# Altium footprint library ECE453-Interface.PcbLib: 37 footprints (part 1 of 3)
Each footprint in its own frame and in the unit in brackets; x right, y up, seen from the top. Pads: shape width x height; smd on the part's side, far side on the other; paste and mask are expansions set on the pad; w line width, h text height; cw(c..) or ccw(c..) is an arc to the next point about the centre after c.
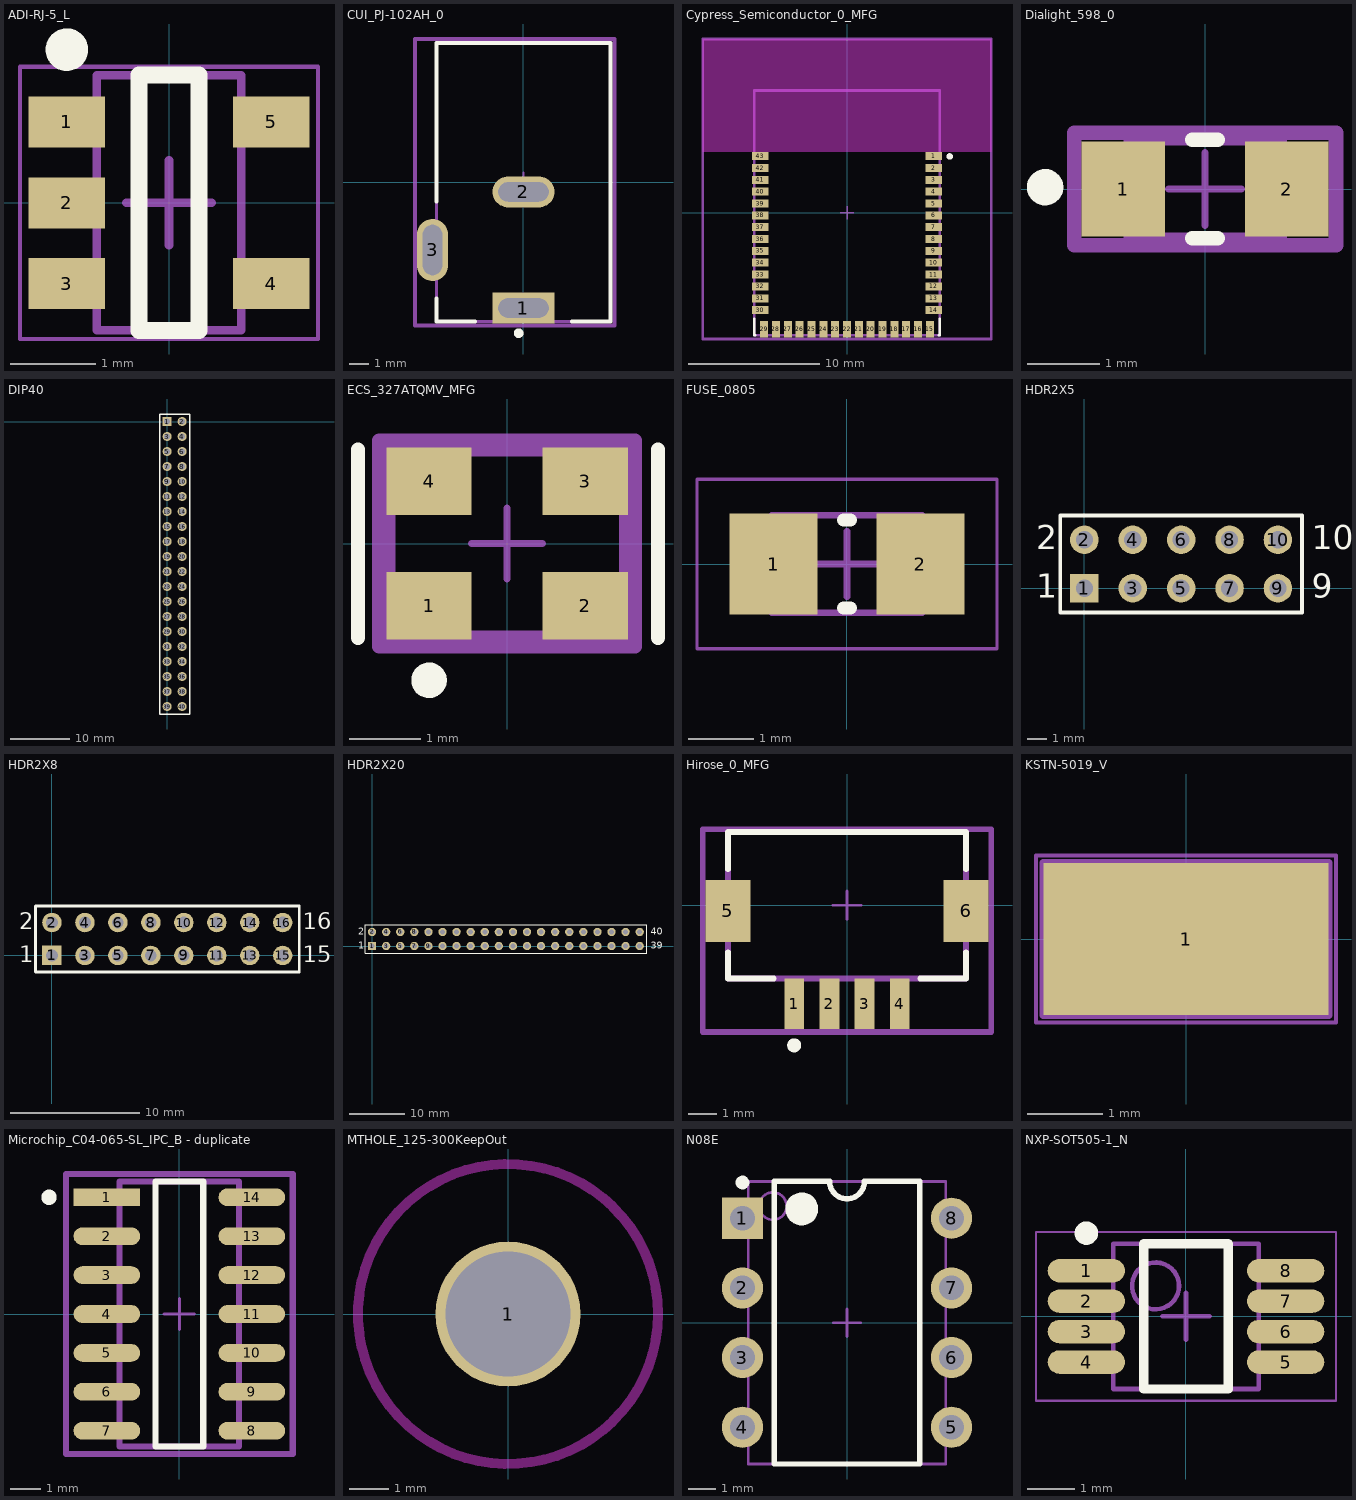
[diagram p0: the footprints below, top view; thin cyan lines are the x and y axes]

## ADI-RJ-5_L [mm] "amplify capicatance signal"
height 1.45
pads (5):
  rect 0.9x0.6 smd: 1(-1.2,0.95) 2(-1.2,0) 3(-1.2,-0.95) 4(1.2,-0.95) 5(1.2,0.95)
Top Overlay:
  circle w0.25: c-1.2,1.8 r0.125
  lines w0.2: -0.35,-1.5 -0.35,1.5 0.35,1.5 0.35,-1.5 -0.35,-1.5
Mechanical 13:
  lines w0.1: -0.85,-1.5 0.85,-1.5 0.85,1.5 -0.85,1.5 -0.85,-1.5
Mechanical 15:
  lines w0.05: -1.75,-1.6 1.75,-1.6 1.75,1.6 -1.75,1.6 -1.75,-1.6
  lines w0.1: -0.5,0 0.5,0 ; 0,-0.5 0,0.5
3D body: height 1.45, standoff 0.05, extent -0.85,-1.5 0.85,1.5

## CUI_PJ-102AH_0 [mm]
pads (3):
  rect 3.2x1.6 hole 1 slot 2.6 at 0 deg paste-1000 mask+0: 1(0,-6.5)
  oval 3.2x1.6 hole 1 slot 2.6 at 0 deg paste-1000 mask+0: 2(0,-0.5)
  oval 1.6x3.2 hole 2.6 slot 1 at 0 deg paste-1000 mask+0: 3(-4.7,-3.5)
Top Overlay:
  circle w0.25: c-0.25,-7.8 r0.125
  lines w0.2: -4.5,-6 -4.5,-7.2 -2.5,-7.2 ; -4.5,-1 -4.5,7.2 4.5,7.2 4.5,-7.2 2.5,-7.2
Mechanical 10:
  lines w0.2: -5.6,-7.4 -5.6,7.4 4.7,7.4 4.7,-7.4 -5.6,-7.4
  text ".Designator" at -0.45,0 h1
Mechanical 12:
  lines w0.15: -4.5,-7.2 -4.5,7.2 4.5,7.2 4.5,-7.2 -4.5,-7.2
Mechanical 15:
  lines w0.1: -0.5,0 0.5,0 ; 0,-0.5 0,0.5
  lines w0.2: -5.6,-7.4 -5.6,7.4 4.7,7.4 4.7,-7.4 -5.6,-7.4
3D body "Conn_CUI_PJ-102AH_eec.STEP": height 0.25, standoff 0, extent -5.6,-7.4 4.7,7.4

## Cypress_Semiconductor_0_MFG [mm] "cypress"
pads (43):
  rect 1.27x0.61 smd paste+0 mask+0: 1(6.619,4.32) 2(6.619,3.42) 3(6.619,2.52) 4(6.619,1.62) 5(6.619,0.71) 6(6.619,-0.19) 7(6.619,-1.09) 8(6.619,-1.99) 9(6.619,-2.89) 10(6.619,-3.79) 11(6.619,-4.7) 12(6.619,-5.6) 13(6.619,-6.5) 14(6.619,-7.4) 30(-6.619,-7.4) 31(-6.619,-6.5) 32(-6.619,-5.6) 33(-6.619,-4.7) 34(-6.619,-3.79) 35(-6.619,-2.89) 36(-6.619,-1.99) 37(-6.619,-1.09) 38(-6.619,-0.19) 39(-6.619,0.71) 40(-6.619,1.62) 41(-6.619,2.52) 42(-6.619,3.42) 43(-6.619,4.32)
  rect 0.61x1.27 smd paste+0 mask+0: 15(6.31,-8.869) 16(5.41,-8.869) 17(4.51,-8.869) 18(3.61,-8.869) 19(2.71,-8.869) 20(1.8,-8.869) 21(0.9,-8.869) 22(0,-8.869) 23(-0.9,-8.869) 24(-1.8,-8.869) 25(-2.7,-8.869) 26(-3.61,-8.869) 27(-4.51,-8.869) 28(-5.41,-8.869) 29(-6.31,-8.869)
Top Overlay:
  circle w0.25: c7.825,4.305 r0.125
  lines w0.2: -7.075,-8.08 -7.075,-9.325 -6.99,-9.325 ; 6.99,-9.325 7.075,-9.325 7.075,-8.08
Keep-Out Layer:
  rectangle: -11,4.63 11,13.25
  rectangle: -11,4.63 11,13.25
Mechanical 10:
  lines w0.2: -11,-9.604 11,-9.604 11,13.25 -11,13.25 -11,-9.604
Mechanical 12:
  lines w0.2: -7.075,-9.325 7.075,-9.325 7.075,9.325 -7.075,9.325 -7.075,-9.325
Mechanical 15:
  lines w0.1: -0.5,0 0.5,0 ; 0,-0.5 0,0.5
  lines w0.2: -11,-9.604 11,-9.604 11,13.25 -11,13.25 -11,-9.604
3D body "UNK_Cypress_Semiconductor_CYBLE-416045-02_eec.STEP": height 0.25, standoff 0, extent -11,-9.604 11,13.25

## Dialight_598_0 [mm] "led"
pads (2):
  rect 1.15x1.3 smd paste+0 mask+0: 1(-1.125,0) 2(1.125,0)
Top Overlay:
  circle w0.25: c-2.2,0.025 r0.125
  lines w0.2: -0.175,-0.675 0.175,-0.675 ; -0.175,0.675 0.175,0.675
Mechanical 10:
  lines w0.2: -1.8,-0.775 1.8,-0.775 1.8,0.775 -1.8,0.775 -1.8,-0.775
  text ".Designator" at 0,0 h1
Mechanical 12:
  lines w0.15: -1.05,-0.675 1.05,-0.675 1.05,0.675 -1.05,0.675 -1.05,-0.675
Mechanical 15:
  lines w0.1: -0.5,0 0.5,0 ; 0,-0.5 0,0.5
  lines w0.2: -1.8,-0.775 1.8,-0.775 1.8,0.775 -1.8,0.775 -1.8,-0.775
3D body "Diode_Dialight_598-8110-107F_eec.STEP": height 0.25, standoff 0, extent -1.8,-0.775 1.8,0.775

## DIP40 [mil]
pads (40):
  rect 60x60 hole 40: 1(0,0)
  round 60 hole 40: 2(100,0) 3(0,-100) 4(100,-100) 5(0,-200) 6(100,-200) 7(0,-300) 8(100,-300) 9(0,-400) 10(100,-400) 11(0,-500) 12(100,-500) 13(0,-600) 14(100,-600) 15(0,-700) 16(100,-700) 17(0,-800) 18(100,-800) 19(0,-900) 20(100,-900) 21(0,-1000) 22(100,-1000) 23(0,-1100) 24(100,-1100) 25(0,-1200) 26(100,-1200) 27(0,-1300) 28(100,-1300) 29(0,-1400) 30(100,-1400) 31(0,-1500) 32(100,-1500) 33(0,-1600) 34(100,-1600) 35(0,-1700) 36(100,-1700) 37(0,-1800) 38(100,-1800) 39(0,-1900) 40(100,-1900)
Top Overlay:
  lines w10: -50,-1950 -50,50 150,50 150,-1950 -50,-1950
Bottom Overlay:
  lines w10: -50,-1050 -125,-1050 -125,-850 -50,-850 ; -50,-1950 -50,50 150,50 150,-1950 -50,-1950
3D body "20x2Header_FEMALE.STEP": height 360.68, standoff -359.4, extent -51.85,-1947.02 145,51.01

## ECS_327ATQMV_MFG [mm] "crystal"
pads (4):
  rect 1.2x0.95 smd paste+0 mask+0: 1(-1.1,-0.875) 2(1.1,-0.875) 3(1.1,0.875) 4(-1.1,0.875)
Top Overlay:
  circle w0.25: c-1.1,-1.925 r0.125
  lines w0.2: -2.1,-1.325 -2.1,1.325 ; 2.125,-1.325 2.125,1.325
Mechanical 10:
  lines w0.2: -1.8,-1.45 -1.8,1.45 1.8,1.45 1.8,-1.45 -1.8,-1.45
  text ".Designator" at 0,0.188 h1
Mechanical 12:
  lines w0.2: -1.675,-1.325 -1.675,1.325 1.675,1.325 1.675,-1.325 -1.675,-1.325
Mechanical 15:
  lines w0.1: -0.5,0 0.5,0 ; 0,-0.5 0,0.5
  lines w0.2: -1.8,-1.45 -1.8,1.45 1.8,1.45 1.8,-1.45 -1.8,-1.45
3D body "Crys_ECS_ECS-327ATQMV-AS-TR_eec.STEP": height 0.25, standoff 0, extent -1.8,-1.45 1.8,1.45

## FUSE_0805 [mm] "Chip Fuse, 2-Leads, Body 2.15x1.35mm, IPC Low Density"
height 0.55
pads (2):
  rect 1.35x1.55 smd: 1(-1.125,0) 2(1.125,0)
Top Overlay:
  lines w0.2: -0.05,-0.675 0.05,-0.675 ; -0.05,0.675 0.05,0.675
Mechanical 13:
  lines w0.1: -1.15,-0.75 1.15,-0.75 1.15,0.75 -1.15,0.75 -1.15,-0.75
Mechanical 15:
  lines w0.05: -2.3,-1.3 2.3,-1.3 2.3,1.3 -2.3,1.3 -2.3,-1.3
  lines w0.1: -0.5,0 0.5,0 ; 0,-0.5 0,0.5
3D body: height 0.55, standoff 0, extent 0.75,-0.75 1.15,0.75
3D body: height 0.55, standoff 0, extent -1.15,-0.75 -0.75,0.75
3D body: height 0.55, standoff 0, extent -0.75,-0.75 0.75,0.75

## HDR2X5 [mm] "Connector; Header; 8x2 Position"
pads (10):
  rect 1.5x1.5 hole 0.9: 1(0,0)
  round 1.5 hole 0.9: 2(0,2.54) 3(2.54,0) 4(2.54,2.54) 5(5.08,0) 6(5.08,2.54) 7(7.62,0) 8(7.62,2.54) 9(10.16,0) 10(10.16,2.54)
Top Overlay:
  lines w0.2: -1.27,-1.27 -1.27,3.81 11.43,3.81 11.43,-1.27 -1.27,-1.27
  text "2" at -2.54,2.032 h1.27
  text "1" at -2.54,-0.508 h1.27
  text "9" at 11.938,-0.508 h1.27
  text "10" at 11.938,2.032 h1.27

## HDR2X8 [mm] "Connector; Header; 8x2 Position"
pads (16):
  rect 1.5x1.5 hole 0.9: 1(0,0)
  round 1.5 hole 0.9: 2(0,2.54) 3(2.54,0) 4(2.54,2.54) 5(5.08,0) 6(5.08,2.54) 7(7.62,0) 8(7.62,2.54) 9(10.16,0) 10(10.16,2.54) 11(12.7,0) 12(12.7,2.54) 13(15.24,0) 14(15.24,2.54) 15(17.78,0) 16(17.78,2.54)
Top Overlay:
  lines w0.2: -1.27,-1.27 -1.27,3.81 19.05,3.81 19.05,-1.27 -1.27,-1.27
  text "2" at -2.54,2.032 h1.27
  text "1" at -2.54,-0.508 h1.27
  text "15" at 19.304,-0.508 h1.27
  text "16" at 19.304,2.032 h1.27

## HDR2X20 [mm] "Connector; Header; 20x2 Position"
pads (40):
  rect 1.5x1.5 hole 0.9: 1(0,0)
  round 1.5 hole 0.9: 2(0,2.54) 3(2.54,0) 4(2.54,2.54) 5(5.08,0) 6(5.08,2.54) 7(7.62,0) 8(7.62,2.54) 9(10.16,0) 10(10.16,2.54) 11(12.7,0) 12(12.7,2.54) 13(15.24,0) 14(15.24,2.54) 15(17.78,0) 16(17.78,2.54) 17(20.32,0) 18(20.32,2.54) 19(22.86,0) 20(22.86,2.54) 21(25.4,0) 22(25.4,2.54) 23(27.94,0) 24(27.94,2.54) 25(30.48,0) 26(30.48,2.54) 27(33.02,0) 28(33.02,2.54) 29(35.56,0) 30(35.56,2.54) 31(38.1,0) 32(38.1,2.54) 33(40.64,0) 34(40.64,2.54) 35(43.18,0) 36(43.18,2.54) 37(45.72,0) 38(45.72,2.54) 39(48.26,0) 40(48.26,2.54)
Top Overlay:
  lines w0.2: -1.27,-1.27 49.53,-1.27 49.53,3.81 -1.27,3.81 -1.27,-1.27
  text "1" at -2.54,-0.508 h1.27
  text "2" at -2.54,2.032 h1.27
  text "40" at 50.292,2.032 h1.27
  text "39" at 50.292,-0.508 h1.27
3D body "5x2_male_header.step": height 9.17, standoff -2.87, extent 36.83,-1.219 49.53,3.781
3D body "5x2_male_header.step": height 9.17, standoff -2.87, extent 24.13,-1.219 36.83,3.781
3D body "5x2_male_header.step": height 9.17, standoff -2.87, extent 11.43,-1.219 24.13,3.781
3D body "5x2_male_header.step": height 9.17, standoff -2.87, extent -1.27,-1.219 11.43,3.781

## Hirose_0_MFG [mm] "4 pin df13"
pads (6):
  rect 0.7x1.8 smd paste+0 mask+0: 1(-1.875,-3.5) 2(-0.625,-3.5) 3(0.625,-3.5) 4(1.875,-3.5)
  rect 1.6x2.2 smd paste+0 mask+0: 5(-4.225,-0.2) 6(4.225,-0.2)
Top Overlay:
  circle w0.25: c-1.875,-4.975 r0.125
  lines w0.2: -4.225,-1.675 -4.225,-2.6 -2.6,-2.6 ; -4.225,1.275 -4.225,2.6 4.225,2.6 4.225,1.275 ; 2.6,-2.6 4.225,-2.6 4.225,-1.675
Mechanical 10:
  lines w0.2: -5.125,-4.5 5.125,-4.5 5.125,2.7 -5.125,2.7 -5.125,-4.5
Mechanical 12:
  lines w0.2: -4.225,-2.6 4.225,-2.6 4.225,2.6 -4.225,2.6 -4.225,-2.6
Mechanical 15:
  lines w0.1: -0.5,0 0.5,0 ; 0,-0.5 0,0.5
  lines w0.2: -5.125,-4.5 5.125,-4.5 5.125,2.7 -5.125,2.7 -5.125,-4.5
3D body "Conn_Hirose_DF13A-4P-1_25H_51_eec.STEP": height 0.25, standoff 0, extent -5.125,-4.5 5.125,2.7

## KSTN-5019_V [mm] "Test Point, 1-Leads, Body 3.81x2.03mm"
height 2.42
pads (1):
  rect 3.8x2.03 smd: 1(0,0)
Mechanical 13:
  lines w0.1: -1.905,-1.015 1.905,-1.015 1.905,1.015 -1.905,1.015 -1.905,-1.015
Mechanical 15:
  lines w0.05: -2,-1.115 -2,1.115 2,1.115 2,-1.115 -2,-1.115
  lines w0.1: -0.5,0 0.5,0 ; 0,-0.5 0,0.5
3D body "keystone-PN5019.STEP": height 2.29, standoff 0, extent -1.905,-1.015 1.905,1.017

## Microchip_C04-065-SL_IPC_B - duplicate [mm] "USB to UART"
pads (14):
  rect 2.174x0.582 smd paste+0 mask+0: 1(-2.366,3.81)
  rrect100% 2.174x0.582 smd paste+0 mask+0: 2(-2.366,2.54) 3(-2.366,1.27) 4(-2.366,0) 5(-2.366,-1.27) 6(-2.366,-2.54) 7(-2.366,-3.81) 8(2.366,-3.81) 9(2.366,-2.54) 10(2.366,-1.27) 11(2.366,0) 12(2.366,1.27) 13(2.366,2.54) 14(2.366,3.81)
Top Overlay:
  circle w0.25: c-4.253,3.81 r0.125
  lines w0.2: -0.779,-4.325 -0.779,4.325 0.779,4.325 0.779,-4.325 -0.779,-4.325
Mechanical 10:
  lines w0.2: -3.703,-4.575 -3.703,4.575 3.703,4.575 3.703,-4.575 -3.703,-4.575
  text ".Designator" at 0,0 h1
Mechanical 12:
  lines w0.2: -1.95,-4.325 -1.95,4.325 1.95,4.325 1.95,-4.325 -1.95,-4.325
Mechanical 15:
  lines w0.1: -0.5,0 0.5,0 ; 0,-0.5 0,0.5
  lines w0.2: -3.703,-4.575 -3.703,4.575 3.703,4.575 3.703,-4.575 -3.703,-4.575
3D body "IC_Microchip_MCP2221A-I-SL_eec.STEP": height 0.25, standoff 0, extent -3.703,-4.575 3.703,4.575

## MTHOLE_125-300KeepOut [mil] "0.125 in Hole w 0.300 Keep Out"
pads (1):
  round 145 / inner round 155 / far side round 145 hole 125: 1(0,0)
Keep-Out Layer:
  circle w10: c0,0 r150

## N08E [mm] "cmos ph DIP, 8-Pin, Row Spacing 7.62 mm, Pitch 2.54 mm"
height 5.34
pads (8):
  rect 1.5x1.5 hole 0.9: 1(-3.81,3.81)
  round 1.5 hole 0.9: 2(-3.81,1.27) 3(-3.81,-1.27) 4(-3.81,-3.81) 5(3.81,-3.81) 6(3.81,-1.27) 7(3.81,1.27) 8(3.81,3.81)
Top Overlay:
  circle w0.6: c-1.65,4.15 r0.3
  circle w0.25: c-3.81,5.11 r0.125
  lines w0.2: -2.65,-5.15 2.65,-5.15 2.65,5.15 0.635,5.15 cw(c0,5.15) -0.635,5.15 -2.65,5.15 -2.65,-5.15
Mechanical 13:
  circle w0.1: c-2.7,4.25 r0.5
  lines w0.1: -3.6,-5.15 3.6,-5.15 3.6,5.15 -3.6,5.15 -3.6,-5.15
Mechanical 15:
  lines w0.1: -0.5,0 0.5,0 ; 0,-0.5 0,0.5
3D body: height 5.33, standoff 0, extent -3.6,-5.15 3.6,5.15

## NXP-SOT505-1_N [mm] "TSOP, 8-Leads, Body 3.1x3.1mm, Pitch 0.65mm, IPC Medium Density"
height 1.1
pads (8):
  oval 1.65x0.5 smd: 1(-2.125,0.975) 2(-2.125,0.325) 3(-2.125,-0.325) 4(-2.125,-0.975) 5(2.125,-0.975) 6(2.125,-0.325) 7(2.125,0.325) 8(2.125,0.975)
Top Overlay:
  circle w0.25: c-2.125,1.775 r0.125
  lines w0.2: -0.9,-1.55 0.9,-1.55 0.9,1.55 -0.9,1.55 -0.9,-1.55
Mechanical 13:
  circle w0.1: c-0.65,0.65 r0.5
  lines w0.1: -1.55,-1.55 1.55,-1.55 1.55,1.55 -1.55,1.55 -1.55,-1.55
Mechanical 15:
  lines w0.05: -3.2,-1.8 3.2,-1.8 3.2,1.8 -3.2,1.8 -3.2,-1.8
  lines w0.1: -0.5,0 0.5,0 ; 0,-0.5 0,0.5
3D body: height 1.1, standoff 0.05, extent -1.55,-1.55 1.55,1.55